# Altium schematic symbol library NCP5901B.SCHLIB: 1 symbol
Pins are listed as number, name and electrical type; pins without a type are passive.

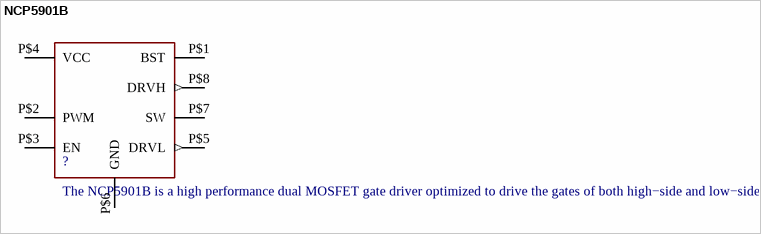
[diagram p0: symbol NCP5901B]

## NCP5901B
designator ?, comment The NCP5901B is a high performance dual MOSFET gate driver / optimized to drive the gates of both high−side and low−side power / MOSFETs in a synchronous buck converter.
footprint SOIC-8
pins: P$1 BST, P$2 PWM, P$3 EN, P$4 VCC (power), P$5 DRVL (out), P$6 GND (power), P$7 SW, P$8 DRVH (out)